# Altium schematic symbol library Servo_Pinheader.SchLib: 1 symbol
Pins are listed as number, name and electrical type; pins without a type are passive.

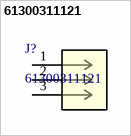
[diagram p0: symbol 61300311121]

## 61300311121
designator J?
WR-PHD 2.54 mm Pin Header; Manufacturer_Name: Wurth Electronics; Copyright: Copyright (C) 2026 Ultra Librarian. All rights reserved.; Manufacturer_Part_Number: 61300311121; RefDes: RefDes; Type: Type
footprint CONN03_6130_7P62X2P54_WRE
pins: 1, 2, 3